# Altium footprint library Female Headers.PcbLib: 12 footprints
Each footprint in its own frame and in the unit in brackets; x right, y up, seen from the top. Pads: shape width x height; smd on the part's side, far side on the other; paste and mask are expansions set on the pad; w line width, h text height; cw(c..) or ccw(c..) is an arc to the next point about the centre after c.
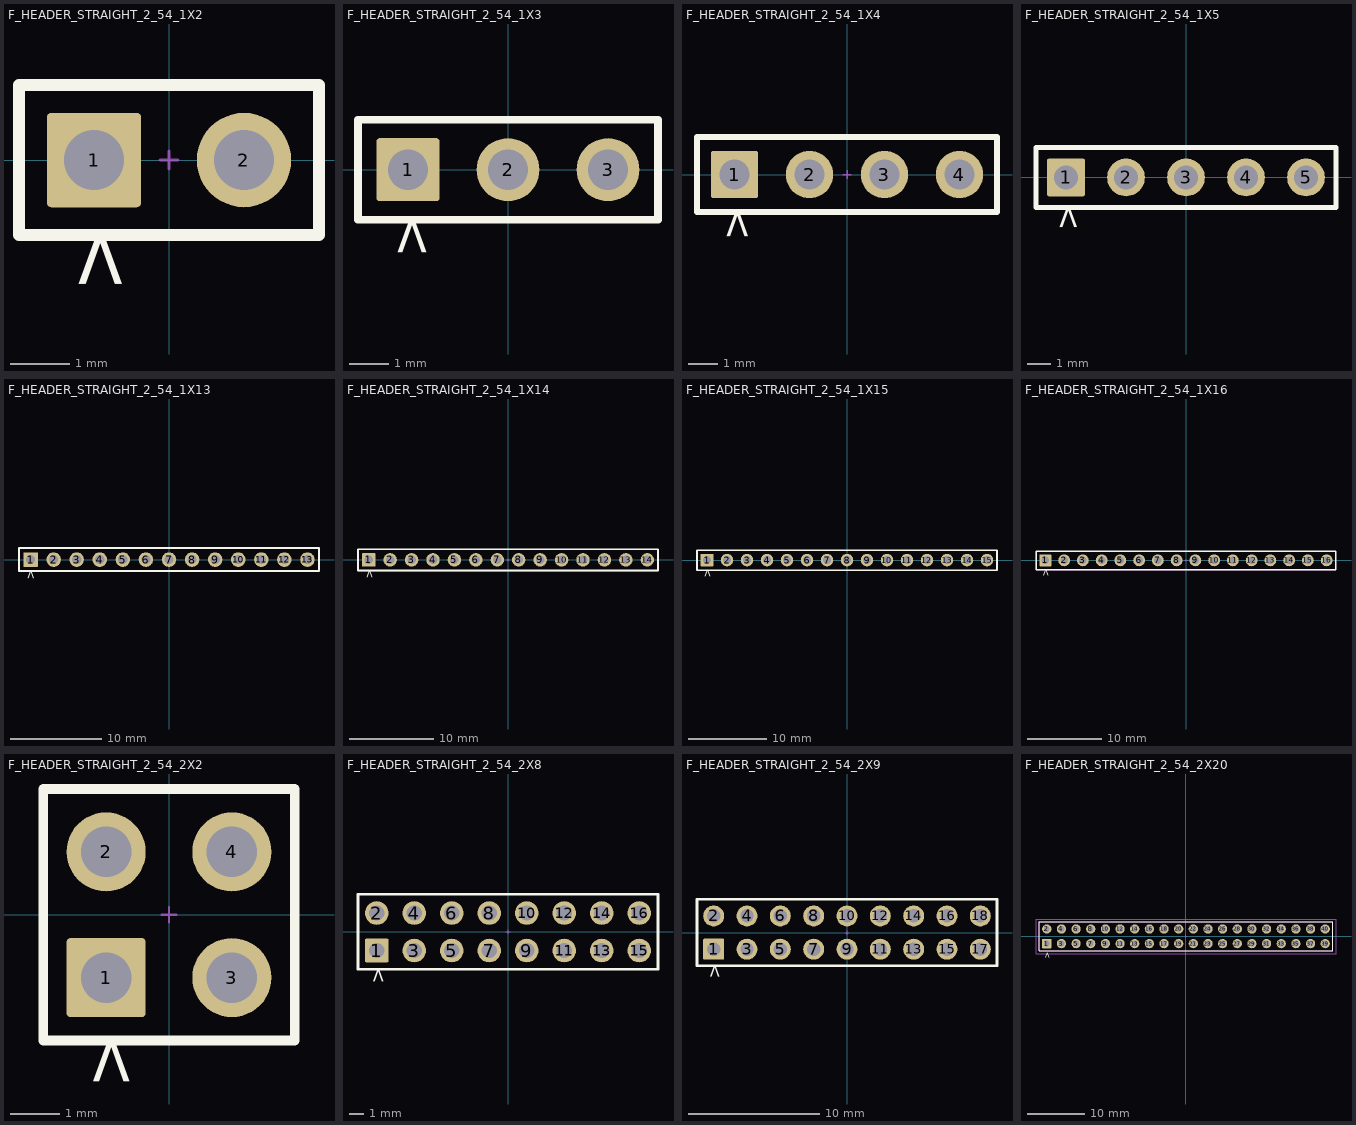
[diagram p0: the footprints below, top view; thin cyan lines are the x and y axes]

## F_HEADER_STRAIGHT_2_54_1X2 [mm]
height 8.5
pads (2):
  rrect10% 1.6x1.6 hole 1.02 paste-2539.97 mask+0.05: 1(-1.27,0)
  round 1.6 hole 1.02 paste-2539.97 mask+0.05: 2(1.27,0)
Top Overlay:
  lines w0.2: -2.54,-1.27 -2.54,1.27 2.54,1.27 2.54,-1.27 -2.54,-1.27
  text ">" at -0.73,-2.25 h1
Top Assembly:
  lines w0.05: -2.54,-1.27 -2.54,1.27 2.54,1.27 2.54,-1.27 -2.54,-1.27
Top Courtyard:
  lines w0.05: -2.54,-1.27 -2.54,1.27 2.54,1.27 2.54,-1.27 -2.54,-1.27
Top Component Center:
  lines w0.05: -0.15,0 0.15,0 ; 0,-0.15 0,0.15
3D body "PBS-2.step": height 8.5, standoff -3, extent -2.54,-1.27 2.54,1.27

## F_HEADER_STRAIGHT_2_54_1X3 [mm]
height 8.5
pads (3):
  rrect10% 1.6x1.6 hole 1.02 paste-2539.97 mask+0.05: 1(-2.54,0)
  round 1.6 hole 1.02 paste-2539.97 mask+0.05: 2(0,0) 3(2.54,0)
Top Overlay:
  lines w0.2: -3.81,-1.27 3.81,-1.27 3.81,1.27 -3.81,1.27 -3.81,-1.27
  text ">" at -2,-2.25 h1
Top Assembly:
  lines w0.05: -3.81,-1.27 -3.81,1.27 3.81,1.27 3.81,-1.27 -3.81,-1.27
Top Courtyard:
  lines w0.05: -3.81,-1.27 3.81,-1.27 3.81,1.27 -3.81,1.27 -3.81,-1.27
Top Component Center:
  lines w0.05: -0.15,0 0.15,0 ; 0,-0.15 0,0.15
3D body "PBS-3.step": height 8.5, standoff -3, extent -3.81,-1.27 3.81,1.27

## F_HEADER_STRAIGHT_2_54_1X4 [mm]
height 8.5
pads (4):
  rrect10% 1.6x1.6 hole 1.02 paste-2539.97 mask+0.05: 1(-3.81,0)
  round 1.6 hole 1.02 paste-2539.97 mask+0.05: 2(-1.27,0) 3(1.27,0)
  round 1.6 hole 1.02 mask+0.05: 4(3.81,0)
Top Overlay:
  lines w0.2: -5.08,-1.27 5.08,-1.27 5.08,1.27 -5.08,1.27 -5.08,-1.27
  text ">" at -3.27,-2.25 h1
Top Assembly:
  lines w0.05: -5.08,-1.27 -5.08,1.27 5.08,1.27 5.08,-1.27 -5.08,-1.27
Top Courtyard:
  lines w0.05: -5.08,-1.27 5.08,-1.27 5.08,1.27 -5.08,1.27 -5.08,-1.27
Top Component Center:
  lines w0.05: -0.15,0 0.15,0 ; 0,-0.15 0,0.15
3D body "PBS-4.step": height 8.5, standoff -3, extent -5.08,-1.27 5.08,1.27

## F_HEADER_STRAIGHT_2_54_1X5 [mm]
height 8.5
pads (5):
  rrect10% 1.6x1.6 hole 1.02 paste-2539.97 mask+0.05: 1(-5.08,0)
  round 1.6 hole 1.02 paste-2539.97 mask+0.05: 2(-2.54,0) 3(0,0)
  round 1.6 hole 1.02 mask+0.05: 4(2.54,0) 5(5.08,0)
Top Overlay:
  lines w0.2: -6.35,-1.27 6.35,-1.27 6.35,1.27 -6.35,1.27 -6.35,-1.27
  text ">" at -4.54,-2.25 h1
Top Assembly:
  lines w0.05: -6.35,-1.27 -6.35,1.27 6.35,1.27 6.35,-1.27 -6.35,-1.27
Top Courtyard:
  lines w0.05: -6.35,-1.27 6.35,-1.27 6.35,1.27 -6.35,1.27 -6.35,-1.27
Top Component Center:
  lines w0.05: -0.15,0 0.15,0 ; 0,-0.15 0,0.15
3D body "PBS-5.step": height 8.5, standoff -3, extent -6.35,-1.27 6.35,1.27

## F_HEADER_STRAIGHT_2_54_1X13 [mm]
height 8.5
pads (13):
  rrect10% 1.6x1.6 hole 1.02 paste-2539.97 mask+0.05: 1(-15.24,0)
  round 1.6 hole 1.02 paste-2539.97 mask+0.05: 2(-12.7,0) 3(-10.16,0)
  round 1.6 hole 1.02 mask+0.05: 4(-7.62,0) 5(-5.08,0) 6(-2.54,0) 7(0,0) 8(2.54,0) 9(5.08,0) 10(7.62,0) 11(10.16,0) 12(12.7,0) 13(15.24,0)
Top Overlay:
  lines w0.2: -16.51,-1.27 16.51,-1.27 16.51,1.27 -16.51,1.27 -16.51,-1.27
  text ">" at -14.7,-2.25 h1
Top Assembly:
  lines w0.05: -16.51,-1.27 -16.51,1.27 16.51,1.27 16.51,-1.27 -16.51,-1.27
Top Courtyard:
  lines w0.05: -16.51,-1.27 16.51,-1.27 16.51,1.27 -16.51,1.27 -16.51,-1.27
Top Component Center:
  lines w0.05: -0.15,0 0.15,0 ; 0,-0.15 0,0.15
3D body "PBS-13.step": height 8.5, standoff -3, extent -16.51,-1.27 16.51,1.27

## F_HEADER_STRAIGHT_2_54_1X14 [mm]
height 8.5
pads (14):
  rrect10% 1.6x1.6 hole 1.02 paste-2539.97 mask+0.05: 1(-16.51,0)
  round 1.6 hole 1.02 paste-2539.97 mask+0.05: 2(-13.97,0) 3(-11.43,0)
  round 1.6 hole 1.02 mask+0.05: 4(-8.89,0) 5(-6.35,0) 6(-3.81,0) 7(-1.27,0) 8(1.27,0) 9(3.81,0) 10(6.35,0) 11(8.89,0) 12(11.43,0) 13(13.97,0) 14(16.51,0)
Top Overlay:
  lines w0.2: -17.78,-1.27 -17.78,1.27 17.78,1.27 17.78,-1.27 -17.78,-1.27
  text ">" at -15.97,-2.25 h1
Top Assembly:
  lines w0.05: -17.78,-1.27 17.78,-1.27 17.78,1.27 -17.78,1.27 -17.78,-1.27
Top Courtyard:
  lines w0.05: -17.78,-1.27 -17.78,1.27 17.78,1.27 17.78,-1.27 -17.78,-1.27
Top Component Center:
  lines w0.05: -0.15,0 0.15,0 ; 0,-0.15 0,0.15
3D body "PBS-14.step": height 8.5, standoff -3, extent -17.78,-1.27 17.78,1.27

## F_HEADER_STRAIGHT_2_54_1X15 [mm]
height 8.5
pads (15):
  rrect10% 1.6x1.6 hole 1.02 paste-2539.97 mask+0.05: 1(-17.78,0)
  round 1.6 hole 1.02 paste-2539.97 mask+0.05: 2(-15.24,0) 3(-12.7,0)
  round 1.6 hole 1.02 mask+0.05: 4(-10.16,0) 5(-7.62,0) 6(-5.08,0) 7(-2.54,0) 8(0,0) 9(2.54,0) 10(5.08,0) 11(7.62,0) 12(10.16,0) 13(12.7,0) 14(15.24,0) 15(17.78,0)
Top Overlay:
  lines w0.2: -19.05,-1.27 -19.05,1.27 19.05,1.27 19.05,-1.27 -19.05,-1.27
  text ">" at -17.24,-2.25 h1
Top Assembly:
  lines w0.05: -19.05,-1.27 -19.05,1.27 19.05,1.27 19.05,-1.27 -19.05,-1.27
Top Courtyard:
  lines w0.05: -19.05,-1.27 -19.05,1.27 19.05,1.27 19.05,-1.27 -19.05,-1.27
Top Component Center:
  lines w0.05: -0.15,0 0.15,0 ; 0,-0.15 0,0.15
3D body "PBS-15.step": height 8.5, standoff -3, extent -19.05,-1.27 19.05,1.27

## F_HEADER_STRAIGHT_2_54_1X16 [mm]
height 8.5
pads (16):
  rrect10% 1.6x1.6 hole 1.02 paste-2539.97 mask+0.05: 1(-19.05,0)
  round 1.6 hole 1.02 paste-2539.97 mask+0.05: 2(-16.51,0) 3(-13.97,0)
  round 1.6 hole 1.02 mask+0.05: 4(-11.43,0) 5(-8.89,0) 6(-6.35,0) 7(-3.81,0) 8(-1.27,0) 9(1.27,0) 10(3.81,0) 11(6.35,0) 12(8.89,0) 13(11.43,0) 14(13.97,0) 15(16.51,0) 16(19.05,0)
Top Overlay:
  lines w0.2: -20.32,-1.27 20.32,-1.27 20.32,1.27 -20.32,1.27 -20.32,-1.27
  text ">" at -18.51,-2.25 h1
Top Assembly:
  lines w0.05: -20.32,-1.27 20.32,-1.27 20.32,1.27 -20.32,1.27 -20.32,-1.27
Top Courtyard:
  lines w0.05: -20.32,-1.27 20.32,-1.27 20.32,1.27 -20.32,1.27 -20.32,-1.27
Top Component Center:
  lines w0.05: -0.15,0 0.15,0 ; 0,-0.15 0,0.15
3D body "PBS-16.step": height 8.5, standoff -3, extent -20.32,-1.27 20.32,1.27

## F_HEADER_STRAIGHT_2_54_2X2 [mm]
height 8.5
pads (4):
  rrect10% 1.6x1.6 hole 1.02 paste-2539.97 mask+0.05: 1(-1.27,-1.27)
  round 1.6 hole 1.02 paste-2539.97 mask+0.05: 2(-1.27,1.27) 3(1.27,-1.27)
  round 1.6 hole 1.02 mask+0.05: 4(1.27,1.27)
Top Overlay:
  lines w0.2: -2.54,-2.54 -2.54,2.54 2.54,2.54 2.54,-2.54 -2.54,-2.54
  text ">" at -0.73,-3.52 h1
Top Assembly:
  lines w0.05: -2.54,-2.54 -2.54,2.54 2.54,2.54 2.54,-2.54 -2.54,-2.54
Top Courtyard:
  lines w0.05: -2.54,-2.54 2.54,-2.54 2.54,2.54 -2.54,2.54 -2.54,-2.54
Top Component Center:
  lines w0.05: -0.15,0 0.15,0 ; 0,-0.15 0,0.15
3D body "PBD-4.step": height 8.5, standoff -3, extent -2.54,-2.54 2.54,2.54

## F_HEADER_STRAIGHT_2_54_2X8 [mm]
height 8.5
pads (16):
  rrect10% 1.6x1.6 hole 1.02 paste-2539.97 mask+0.05: 1(-8.89,-1.27)
  round 1.6 hole 1.02 paste-2539.97 mask+0.05: 2(-8.89,1.27) 3(-6.35,-1.27)
  round 1.6 hole 1.02 mask+0.05: 4(-6.35,1.27) 5(-3.81,-1.27) 6(-3.81,1.27) 7(-1.27,-1.27) 8(-1.27,1.27) 9(1.27,-1.27) 10(1.27,1.27) 11(3.81,-1.27) 12(3.81,1.27) 13(6.35,-1.27) 14(6.35,1.27) 15(8.89,-1.27) 16(8.89,1.27)
Top Overlay:
  lines w0.2: -10.16,-2.54 10.16,-2.54 10.16,2.54 -10.16,2.54 -10.16,-2.54
  text ">" at -8.35,-3.52 h1
Top Assembly:
  lines w0.05: -10.16,-2.54 10.16,-2.54 10.16,2.54 -10.16,2.54 -10.16,-2.54
Top Courtyard:
  lines w0.05: -10.16,-2.54 10.16,-2.54 10.16,2.54 -10.16,2.54 -10.16,-2.54
Top Component Center:
  lines w0.05: -0.15,0 0.15,0 ; 0,-0.15 0,0.15
3D body "PBD-16.step": height 8.5, standoff -3, extent -10.16,-2.54 10.16,2.54

## F_HEADER_STRAIGHT_2_54_2X9 [mm]
height 8.5
pads (18):
  rrect10% 1.6x1.6 hole 1.02 paste-2539.97 mask+0.05: 1(-10.16,-1.27)
  round 1.6 hole 1.02 paste-2539.97 mask+0.05: 2(-10.16,1.27) 3(-7.62,-1.27)
  round 1.6 hole 1.02 mask+0.05: 4(-7.62,1.27) 5(-5.08,-1.27) 6(-5.08,1.27) 7(-2.54,-1.27) 8(-2.54,1.27) 9(0,-1.27) 10(0,1.27) 11(2.54,-1.27) 12(2.54,1.27) 13(5.08,-1.27) 14(5.08,1.27) 15(7.62,-1.27) 16(7.62,1.27) 17(10.16,-1.27) 18(10.16,1.27)
Top Overlay:
  lines w0.2: -11.43,-2.54 -11.43,2.54 11.43,2.54 11.43,-2.54 -11.43,-2.54
  text ">" at -9.62,-3.52 h1
Top Assembly:
  lines w0.05: -11.43,-2.54 -11.43,2.54 11.43,2.54 11.43,-2.54 -11.43,-2.54
Top Courtyard:
  lines w0.05: -11.43,-2.54 -11.43,2.54 11.43,2.54 11.43,-2.54 -11.43,-2.54
Top Component Center:
  lines w0.05: -0.15,0 0.15,0 ; 0,-0.15 0,0.15
3D body "PBD-18.step": height 8.5, standoff -3, extent -11.43,-2.54 11.43,2.54

## F_HEADER_STRAIGHT_2_54_2X20 [mm]
height 8.5
pads (40):
  rrect10% 1.6x1.6 hole 1.02 mask+0.05: 1(-24.13,-1.27)
  round 1.6 hole 1.02 mask+0.05: 2(-24.13,1.27) 3(-21.59,-1.27) 4(-21.59,1.27) 5(-19.05,-1.27) 6(-19.05,1.27) 7(-16.51,-1.27) 8(-16.51,1.27) 9(-13.97,-1.27) 10(-13.97,1.27) 11(-11.43,-1.27) 12(-11.43,1.27) 13(-8.89,-1.27) 14(-8.89,1.27) 15(-6.35,-1.27) 16(-6.35,1.27) 17(-3.81,-1.27) 18(-3.81,1.27) 19(-1.27,-1.27) 20(-1.27,1.27) 21(1.27,-1.27) 22(1.27,1.27) 23(3.81,-1.27) 24(3.81,1.27) 25(6.35,-1.27) 26(6.35,1.27) 27(8.89,-1.27) 28(8.89,1.27) 29(11.43,-1.27) 30(11.43,1.27) 31(13.97,-1.27) 32(13.97,1.27) 33(16.51,-1.27) 34(16.51,1.27) 35(19.05,-1.27) 36(19.05,1.27) 37(21.59,-1.27) 38(21.59,1.27) 39(24.13,-1.27) 40(24.13,1.27)
Top Overlay:
  lines w0.2: -25.4,-2.5 25.4,-2.5 25.4,2.5 -25.4,2.5 -25.4,-2.5
  text ">" at -23.63,-3.93 h1
Top Assembly:
  lines w0.05: -25.4,-2.5 25.4,-2.5 25.4,2.5 -25.4,2.5 -25.4,-2.5
Top Courtyard:
  lines w0.05: -26,-3 26,-3 26,3 -26,3 -26,-3
Top Component Center:
  lines w0.05: -0.15,0 0.15,0 ; 0,-0.15 0,0.15
3D body "PBD-40.step": height 8.5, standoff -3, extent -25.4,-2.54 25.4,2.54